# Altium footprint library gpa_vendor_specific.PcbLib: 20 footprints (part 2 of 2)
Each footprint in its own frame and in the unit in brackets; x right, y up, seen from the top. Pads: shape width x height; smd on the part's side, far side on the other; paste and mask are expansions set on the pad; w line width, h text height; cw(c..) or ccw(c..) is an arc to the next point about the centre after c.
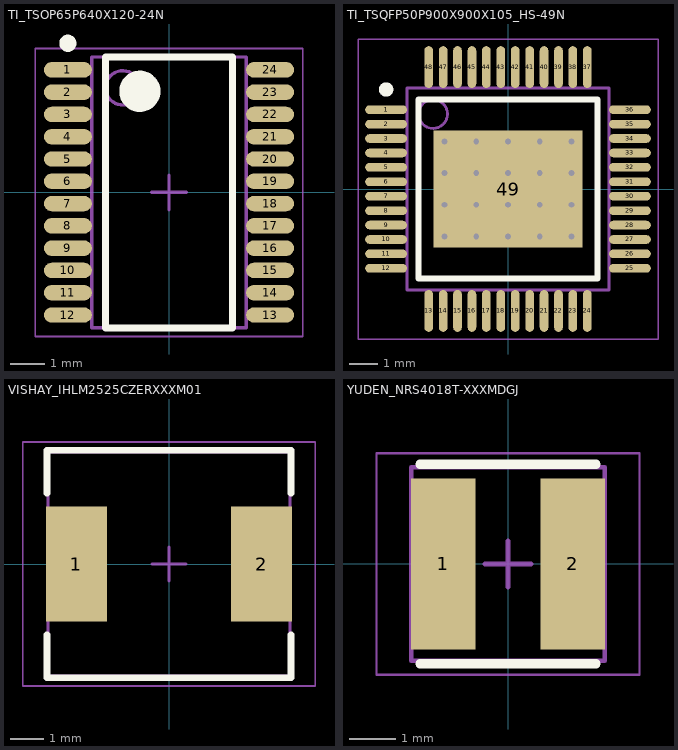
[diagram p1: the footprints below, top view; thin cyan lines are the x and y axes]

## TI_TSOP65P640X120-24N [mm] "TSOP, 24-Leads, Body 7.80x4.40mm, Pitch 0.65mm, IPC Medium Density"
height 1.2
pads (24):
  oval 1.4x0.45 smd: 1(-2.95,3.575) 2(-2.95,2.925) 3(-2.95,2.275) 4(-2.95,1.625) 5(-2.95,0.975) 6(-2.95,0.325) 7(-2.95,-0.325) 8(-2.95,-0.975) 9(-2.95,-1.625) 10(-2.95,-2.275) 11(-2.95,-2.925) 12(-2.95,-3.575) 13(2.95,-3.575) 14(2.95,-2.925) 15(2.95,-2.275) 16(2.95,-1.625) 17(2.95,-0.975) 18(2.95,-0.325) 19(2.95,0.325) 20(2.95,0.975) 21(2.95,1.625) 22(2.95,2.275) 23(2.95,2.925) 24(2.95,3.575)
Top Overlay:
  circle w0.25: c-2.95,4.35 r0.125
  circle w0.6: c-0.85,2.95 r0.3
  lines w0.2: -1.85,-3.95 -1.85,3.95 1.85,3.95 1.85,-3.95 -1.85,-3.95
Mechanical 13:
  circle w0.1: c-1.35,3.05 r0.5
  lines w0.1: -2.25,-3.95 -2.25,3.95 2.25,3.95 2.25,-3.95 -2.25,-3.95
Mechanical 15:
  lines w0.05: -3.9,-4.2 -3.9,4.2 3.9,4.2 3.9,-4.2 -3.9,-4.2
  lines w0.1: -0.5,0 0.5,0 ; 0,-0.5 0,0.5
3D body: height 1.2, standoff 0.05, extent -2.25,-3.95 2.25,3.95

## TI_TSQFP50P900X900X105_HS-49N [mm] "TSQFP, 48-Leads, Body 7.00x7.00mm, Pitch 0.50mm, Thermal Pad 5.17x4.04mm, IPC Medium Density"
height 1.05
pads (49):
  oval 1.45x0.3 smd: 1(-4.225,2.75) 2(-4.225,2.25) 3(-4.225,1.75) 4(-4.225,1.25) 5(-4.225,0.75) 6(-4.225,0.25) 7(-4.225,-0.25) 8(-4.225,-0.75) 9(-4.225,-1.25) 10(-4.225,-1.75) 11(-4.225,-2.25) 12(-4.225,-2.75) 25(4.225,-2.75) 26(4.225,-2.25) 27(4.225,-1.75) 28(4.225,-1.25) 29(4.225,-0.75) 30(4.225,-0.25) 31(4.225,0.25) 32(4.225,0.75) 33(4.225,1.25) 34(4.225,1.75) 35(4.225,2.25) 36(4.225,2.75)
  oval 0.3x1.45 smd: 13(-2.75,-4.225) 14(-2.25,-4.225) 15(-1.75,-4.225) 16(-1.25,-4.225) 17(-0.75,-4.225) 18(-0.25,-4.225) 19(0.25,-4.225) 20(0.75,-4.225) 21(1.25,-4.225) 22(1.75,-4.225) 23(2.25,-4.225) 24(2.75,-4.225) 37(2.75,4.225) 38(2.25,4.225) 39(1.75,4.225) 40(1.25,4.225) 41(0.75,4.225) 42(0.25,4.225) 43(-0.25,4.225) 44(-0.75,4.225) 45(-1.25,4.225) 46(-1.75,4.225) 47(-2.25,4.225) 48(-2.75,4.225)
  rect 5.17x4.04 smd: 49(0,0)
via 2.2,-1.65 diameter 0.5 hole 0.2
via 1.1,-1.65 diameter 0.5 hole 0.2
via 0,-1.65 diameter 0.5 hole 0.2
via -1.1,-1.65 diameter 0.5 hole 0.2
via -2.2,-1.65 diameter 0.5 hole 0.2
via 2.2,-0.55 diameter 0.5 hole 0.2
via 1.1,-0.55 diameter 0.5 hole 0.2
via 0,-0.55 diameter 0.5 hole 0.2
via -1.1,-0.55 diameter 0.5 hole 0.2
via -2.2,-0.55 diameter 0.5 hole 0.2
via 2.2,0.55 diameter 0.5 hole 0.2
via 1.1,0.55 diameter 0.5 hole 0.2
via 0,0.55 diameter 0.5 hole 0.2
via -1.1,0.55 diameter 0.5 hole 0.2
via -2.2,0.55 diameter 0.5 hole 0.2
via 2.2,1.65 diameter 0.5 hole 0.2
via 1.1,1.65 diameter 0.5 hole 0.2
via 0,1.65 diameter 0.5 hole 0.2
via -1.1,1.65 diameter 0.5 hole 0.2
via -2.2,1.65 diameter 0.5 hole 0.2
Top Overlay:
  circle w0.25: c-4.225,3.45 r0.125
  lines w0.2: -3.1,-3.1 3.1,-3.1 3.1,3.1 -3.1,3.1 -3.1,-3.1
Mechanical 13:
  circle w0.1: c-2.6,2.6 r0.5
  lines w0.1: -3.5,-3.5 3.5,-3.5 3.5,3.5 -3.5,3.5 -3.5,-3.5
Mechanical 15:
  lines w0.05: -5.2,-5.2 5.2,-5.2 5.2,5.2 -5.2,5.2 -5.2,-5.2
  lines w0.1: -0.5,0 0.5,0 ; 0,-0.5 0,0.5
3D body "TI_TSQFP50P900X900X105_HS-49N.step": height 1.05, standoff 0, extent -4.5,-4.5 4.5,4.5

## VISHAY_IHLM2525CZERXXXM01 [mm] "Molded Inductor, 2-Leads, Body 6.86x6.47mm, IPC Medium Density"
height 3
pads (2):
  rect 1.83x3.43 smd: 1(-2.77,0) 2(2.77,0)
Top Overlay:
  lines w0.2: -3.65,-2.115 -3.65,-3.4 3.65,-3.4 3.65,-2.115 ; -3.65,2.115 -3.65,3.4 3.65,3.4 3.65,2.115
Mechanical 13:
  lines w0.1: -3.62,-3.36 3.62,-3.36 3.62,3.36 -3.62,3.36 -3.62,-3.36
Mechanical 15:
  lines w0.05: -4.375,-3.65 4.375,-3.65 4.375,3.65 -4.375,3.65 -4.375,-3.65
  lines w0.1: -0.5,0 0.5,0 ; 0,-0.5 0,0.5
3D body: height 3, standoff 0, extent -3.62,-3.36 3.62,3.36

## YUDEN_NRS4018T-XXXMDGJ [mm] "Molded Inductor, 2-Leads, Body 4.00x4.00mm, IPC Medium Density"
height 1.8
pads (2):
  rect 1.4x3.7 smd: 1(-1.4,0) 2(1.4,0)
Top Overlay:
  lines w0.2: -1.905,-2.159 1.905,-2.159 ; -1.905,2.159 1.905,2.159
Mechanical 13:
  lines w0.1: -2.1,-2.1 -2.1,2.1 2.1,2.1 2.1,-2.1 -2.1,-2.1
Mechanical 15:
  lines w0.05: -2.85,-2.4 -2.85,2.4 2.85,2.4 2.85,-2.4 -2.85,-2.4
  lines w0.1: -0.5,0 0.5,0 ; 0,-0.5 0,0.5
3D body: height 1.8, standoff 0, extent -2.1,-2.1 2.1,2.1